# EAGLE library part PICO80P2 (library JLB6_Connec)
Embase picocpu (carte base) 80 points P2
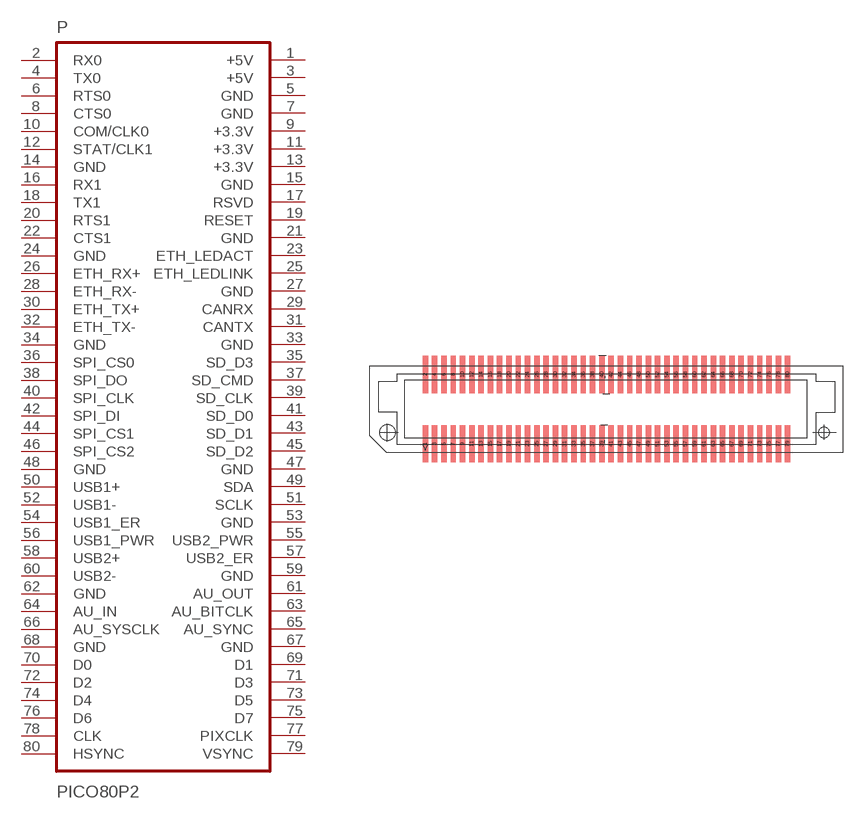
[diagram p18: symbol with the pads of FX8C-80P; footprint FX8C-80P]

Designator prefix P

## PICO80P2  [FX8C-80P]
1  +5V
2  RX0
3  +5V
4  TX0
5  GND
6  RTS0
7  GND
8  CTS0
9  +3.3V
10  COM/CLK0
11  +3.3V
12  STAT/CLK1
13  +3.3V
14  GND
15  GND
16  RX1
17  RSVD
18  TX1
19  RESET
20  RTS1
21  GND
22  CTS1
23  ETH_LEDACT
24  GND
25  ETH_LEDLINK
26  ETH_RX+
27  GND
28  ETH_RX-
29  CANRX
30  ETH_TX+
31  CANTX
32  ETH_TX-
33  GND
34  GND
35  SD_D3
36  SPI_CS0
37  SD_CMD
38  SPI_DO
39  SD_CLK
40  SPI_CLK
41  SD_D0
42  SPI_DI
43  SD_D1
44  SPI_CS1
45  SD_D2
46  SPI_CS2
47  GND
48  GND
49  SDA
50  USB1+
51  SCLK
52  USB1-
53  GND
54  USB1_ER
55  USB2_PWR
56  USB1_PWR
57  USB2_ER
58  USB2+
59  GND
60  USB2-
61  AU_OUT
62  GND
63  AU_BITCLK
64  AU_IN
65  AU_SYNC
66  AU_SYSCLK
67  GND
68  GND
69  D1
70  D0
71  D3
72  D2
73  D5
74  D4
75  D7
76  D6
77  PIXCLK
78  CLK
79  VSYNC
80  HSYNC

## Footprint FX8C-80P (pad centres in mm)
smd 0.35 x 2.4: 1 -11.7,-2.238; 2 -11.7,2.238; 3 -11.1,-2.238; 4 -11.1,2.238; 5 -10.5,-2.238; 6 -10.5,2.238; 7 -9.9,-2.238; 8 -9.9,2.238; 9 -9.3,-2.238; 10 -9.3,2.238; 11 -8.7,-2.238; 12 -8.7,2.238; 13 -8.1,-2.238; 14 -8.1,2.238; 15 -7.5,-2.238; 16 -7.5,2.238; 17 -6.9,-2.238; 18 -6.9,2.238; 19 -6.3,-2.238; 20 -6.3,2.238; 21 -5.7,-2.238; 22 -5.7,2.238; 23 -5.1,-2.238; 24 -5.1,2.238; 25 -4.5,-2.238; 26 -4.5,2.238; 27 -3.9,-2.238; 28 -3.9,2.238; 29 -3.3,-2.238; 30 -3.3,2.238; 31 -2.7,-2.238; 32 -2.7,2.238; 33 -2.1,-2.238; 34 -2.1,2.238; 35 -1.5,-2.238; 36 -1.5,2.238; 37 -0.9,-2.238; 38 -0.9,2.238; 39 -0.3,-2.238; 40 -0.3,2.238; 41 0.3,-2.238; 42 0.3,2.238; 43 0.9,-2.238; 44 0.9,2.238; 45 1.5,-2.238; 46 1.5,2.238; 47 2.1,-2.238; 48 2.1,2.238; 49 2.7,-2.238; 50 2.7,2.238; 51 3.3,-2.238; 52 3.3,2.238; 53 3.9,-2.238; 54 3.9,2.238; 55 4.5,-2.238; 56 4.5,2.238; 57 5.1,-2.238; 58 5.1,2.238; 59 5.7,-2.238; 60 5.7,2.238; 61 6.3,-2.238; 62 6.3,2.238; 63 6.9,-2.238; 64 6.9,2.238; 65 7.5,-2.238; 66 7.5,2.238; 67 8.1,-2.238; 68 8.1,2.238; 69 8.7,-2.238; 70 8.7,2.238; 71 9.3,-2.238; 72 9.3,2.238; 73 9.9,-2.238; 74 9.9,2.238; 75 10.5,-2.238; 76 10.5,2.238; 77 11.1,-2.238; 78 11.1,2.238; 79 11.7,-2.238; 80 11.7,2.238
hole 0.991 at -14.147,-1.499
hole 0.686 at 14.047,-1.499